# Altium schematic symbol library rever.SchLib: 6 symbols
Pins are listed as number, name and electrical type; pins without a type are passive.

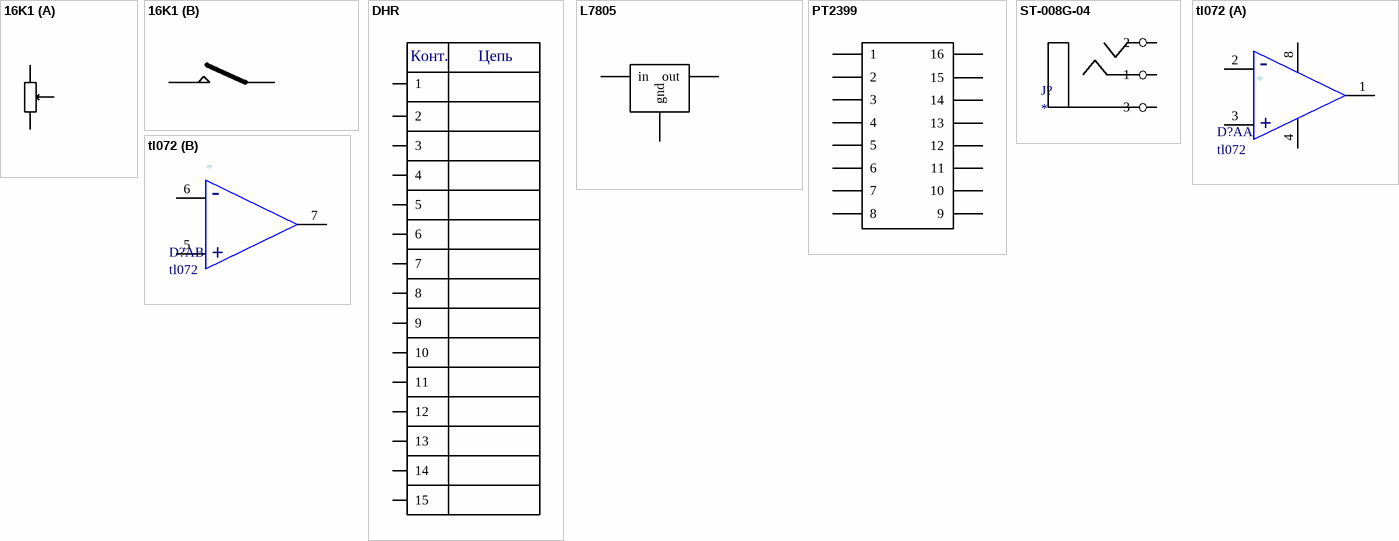
[diagram p0: symbols 16K1 to tl072]

## 16K1
designator R?
part A pins: 1, 2, 3
part B pins: 4, 5

## DHR
designator s, comment sourse  (value not drawn)
pins: 1, 2, 3, 4, 5, 6, 7, 8, 9, 10, 11, 12, 13, 14, 15
text: Конт.; Цепь

## L7805
designator D?  (value not drawn)
pins: 0 gnd, 1 in, 2 out

## PT2399
designator s, comment sourse  (value not drawn)
pins: 1, 2, 3, 4, 5, 6, 7, 8, 9, 10, 11, 12, 13, 14, 15, 16

## ST-008G-04
designator J?
footprint ST-008G-04
pins: 1, 2, 3

## tl072
designator D?A
part A pins: 1, 2, 3, 4, 8
part B pins: 5, 6, 7
part A text: -; +
part B text: -; +